# Altium schematic symbol library resistors.SchLib: 65 symbols
Pins are listed as number, name and electrical type; pins without a type are passive.

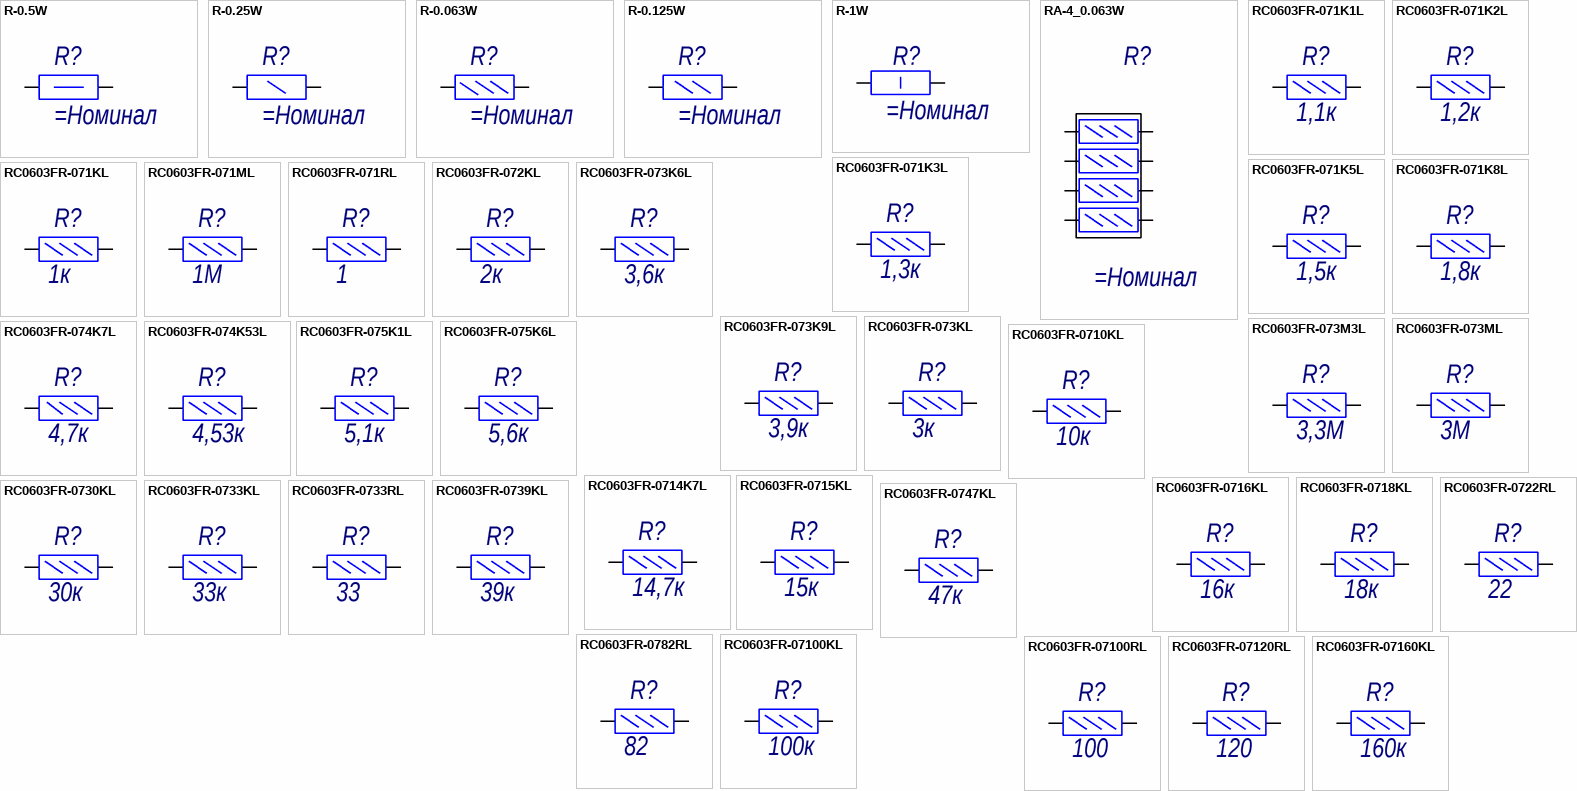
[diagram p0: symbols R-0.5W to RC0603FR-07160KL]

## R-0.5W
designator R?
Резистор 0,5Вт общий; ClassName: *
pins: 1, 2

## R-0.25W
designator R?
Резистор 0,25Вт общий; ClassName: *
pins: 1, 2

## R-0.063W
designator R?
Резистор 0,063Вт общий; ClassName: *
pins: 1, 2

## R-0.125W
designator R?
Резистор 0,125Вт общий; ClassName: *
pins: 1, 2

## R-1W
designator R?
Резистор 1Вт общий; ClassName: *
pins: 1, 2

## RA-4_0.063W
designator R?
Резисторная сборка 0,063Вт; ClassName: *
pins: 1, 2, 3, 4, 5, 6, 7, 8

## RC0603FR-071K1L
designator R?, comment 1,1к
Резистор 1,1кОм 0,063Вт 1%; Manufacturer: YAGEO; Name: RC0603FR-071K1L; Tolerance: 1%; Value: 1,1к
footprint R0603
pins: 1, 2

## RC0603FR-071K2L
designator R?, comment 1,2к
Резистор 1,2кОм 0,063Вт 1%; Manufacturer: YAGEO; Name: RC0603FR-071K2L; Tolerance: 1%; Value: 1,2к
footprint R0603
pins: 1, 2

## RC0603FR-071K3L
designator R?, comment 1,3к
Резистор 1,3кОм 0,063Вт 1%; Manufacturer: YAGEO; Name: RC0603FR-071K3L; Tolerance: 1%; Value: 1,3к
footprint R0603
pins: 1, 2

## RC0603FR-071K5L
designator R?, comment 1,5к
Резистор 1,5кОм 0,063Вт 1%; Manufacturer: YAGEO; Name: RC0603FR-071K5L; Tolerance: 1%; Value: 1,5к
footprint R0603
pins: 1, 2

## RC0603FR-071K8L
designator R?, comment 1,8к
Резистор 1,8кОм 0,063Вт 1%; Manufacturer: YAGEO; Name: RC0603FR-071K8L; Tolerance: 1%; Value: 1,8к
footprint R0603
pins: 1, 2

## RC0603FR-071KL
designator R?, comment 1к
Резистор 1кОм 0,063Вт 1%; Manufacturer: YAGEO; Name: RC0603FR-071KL; Tolerance: 1%; Value: 1к
footprint R0603
pins: 1, 2

## RC0603FR-071ML
designator R?, comment 1М
Резистор1МОм 0,1Вт 1%; Manufacturer: YAGEO; Name: RC0603FR-071ML; Tolerance: 1%; Value: 1М
footprint R0603
pins: 1, 2

## RC0603FR-071RL
designator R?, comment 1
Резистор 1Ом 0,063Вт 1%; Manufacturer: YAGEO; Name: RC0603FR-071RL; Tolerance: 1%; Value: 1
footprint R0603
pins: 1, 2

## RC0603FR-072KL
designator R?, comment 2к
Резистор 2кОм 0,063Вт 1%; Manufacturer: YAGEO; Name: RC0603FR-072KL; Tolerance: 1%; Value: 2к
footprint R0603
pins: 1, 2

## RC0603FR-073K6L
designator R?, comment 3,6к
Резистор 3,6кОм 0,063Вт 1%; Manufacturer: YAGEO; Name: RC0603FR-073K6L; Tolerance: 1%; Value: 3,6к
footprint R0603
pins: 1, 2

## RC0603FR-073K9L
designator R?, comment 3,9к
Резистор 3,9кОм 0,063Вт 1%; Manufacturer: YAGEO; Name: RC0603FR-073K9L; Tolerance: 1%; Value: 3,9к
footprint R0603
pins: 1, 2

## RC0603FR-073KL
designator R?, comment 3к
Резистор 3кОм 0,063Вт 1%; Manufacturer: YAGEO; Name: RC0603FR-073KL; Tolerance: 1%; Value: 3к
footprint R0603
pins: 1, 2

## RC0603FR-073M3L
designator R?, comment 3,3М
Резистор 3,3МОм 0,1Вт 1%; Manufacturer: YAGEO; Name: RC0603FR-073M3L; Tolerance: 1%; Value: 3,3М
footprint R0603
pins: 1, 2

## RC0603FR-073ML
designator R?, comment 3М
Резистор 3М 0,1Вт 1%; Manufacturer: YAGEO; Name: RC0603FR-073ML; Tolerance: 1%; Value: 3М
footprint R0603
pins: 1, 2

## RC0603FR-074K7L
designator R?, comment 4,7к
Резистор 4,7кОм 0,063Вт 1%; Manufacturer: YAGEO; Name: RC0603FR-074K7L; Tolerance: 1%; Parameter 1: *; Value: 4,7к
footprint R0603
pins: 1, 2

## RC0603FR-074K53L
designator R?, comment 4,53к
Резистор 4,53кОм 0,1Вт 1%; Manufacturer: YAGEO; Name: RC0603FR-074K53L; Tolerance: 1%; Value: 4,53к
footprint R0603
pins: 1, 2

## RC0603FR-075K1L
designator R?, comment 5,1к
Резистор 5,1кОм 0,1Вт 1%; Manufacturer: YAGEO; Name: RC0603FR-075K1L; Tolerance: 1%; Value: 5,1к
footprint R0603
pins: 1, 2

## RC0603FR-075K6L
designator R?, comment 5,6к
Резистор 5,6кОм 0,1Вт 1%; Manufacturer: YAGEO; Name: RC0603FR-075K6L; Tolerance: 1%; Value: 5,6к
footprint R0603
pins: 1, 2

## RC0603FR-0710KL
designator R?, comment 10к
Резистор 10кОм 0,063Вт 1%; Manufacturer: YAGEO; Name: RC0603FR-0710KL; Tolerance: 1%; Value: 10к
footprint R0603
pins: 1, 2

## RC0603FR-0714K7L
designator R?, comment 14,7к
Резистор 14,7кОм 0,063Вт 1%; Manufacturer: YAGEO; Name: RC0603FR-0714K7L; Tolerance: 1%; Value: 14,7к
footprint R0603
pins: 1, 2

## RC0603FR-0715KL
designator R?, comment 15к
Резистор 15кОм 0,063Вт 1%; Manufacturer: YAGEO; Name: RC0603FR-0715KL; Tolerance: 1%; Value: 15к
footprint R0603
pins: 1, 2

## RC0603FR-0716KL
designator R?, comment 16к
Резистор 16кОм 0,063Вт 1%; Manufacturer: YAGEO; Name: RC0603FR-0716KL; Tolerance: 1%; Value: 16к
footprint R0603
pins: 1, 2

## RC0603FR-0718KL
designator R?, comment 18к
Резистор 18кОм 0,063Вт 1%; Manufacturer: YAGEO; Name: RC0603FR-0718KL; Tolerance: 1%; Value: 18к
footprint R0603
pins: 1, 2

## RC0603FR-0722RL
designator R?, comment 22
Резистор 22 Ом 0,1Вт 1%; Manufacturer: YAGEO; Name: RC0603FR-0722RL; Tolerance: 1%; Value: 22
footprint R0603
pins: 1, 2

## RC0603FR-0730KL
designator R?, comment 30к
Резистор 30кОм 0,063Вт 1%; Manufacturer: YAGEO; Name: RC0603FR-0730KL; Tolerance: 1%; Value: 30к
footprint R0603
pins: 1, 2

## RC0603FR-0733KL
designator R?, comment 33к
Резистор 33кОм 0,063Вт 1%; Manufacturer: YAGEO; Name: RC0603FR-0733KL; Tolerance: 1%; Value: 33к
footprint R0603
pins: 1, 2

## RC0603FR-0733RL
designator R?, comment 33
Резистор 33Ом 0,063Вт 1%; Manufacturer: YAGEO; Name: RC0603FR-0733RL; Tolerance: 1%; Value: 33
footprint R0603
pins: 1, 2

## RC0603FR-0739KL
designator R?, comment 39к
Резистор 39кОм 0,063Вт 1%; Manufacturer: YAGEO; Name: RC0603FR-0739KL; Tolerance: 1%; Value: 39к
footprint R0603
pins: 1, 2

## RC0603FR-0747KL
designator R?, comment 47к
Резистор 47кОм 0,063Вт 1%; Manufacturer: YAGEO; Name: RC0603FR-0747KL; Tolerance: 1%; Value: 47к
footprint R0603
pins: 1, 2

## RC0603FR-0782RL
designator R?, comment 82
Резистор 82Ом 0,063Вт 1%; Manufacturer: YAGEO; Name: RC0603FR-0782RL; Tolerance: 1%; Value: 82
footprint R0603
pins: 1, 2

## RC0603FR-07100KL
designator R?, comment 100к
Резистор 100кОм 0,1Вт 1%; Manufacturer: YAGEO; Name: RC0603FR-07100KL; Tolerance: 1%; Value: 100к
footprint R0603
pins: 1, 2

## RC0603FR-07100RL
designator R?, comment 100
Резистор 100 Ом 0,1Вт 1%; Manufacturer: YAGEO; Name: RC0603FR-07100RL; Tolerance: 1%; Value: 100
footprint R0603
pins: 1, 2

## RC0603FR-07120RL
designator R?, comment 120
Резистор 120Ом 0,063Вт 1%; Manufacturer: YAGEO; Name: RC0603FR-07120RL; Tolerance: 1%; Value: 120
footprint R0603
pins: 1, 2

## RC0603FR-07160KL
designator R?, comment 160к
Резистор 160кОм 0,063Вт 1%; Manufacturer: YAGEO; Name: RC0603FR-07160KL; Tolerance: 1%; Value: 160к
footprint R0603
pins: 1, 2

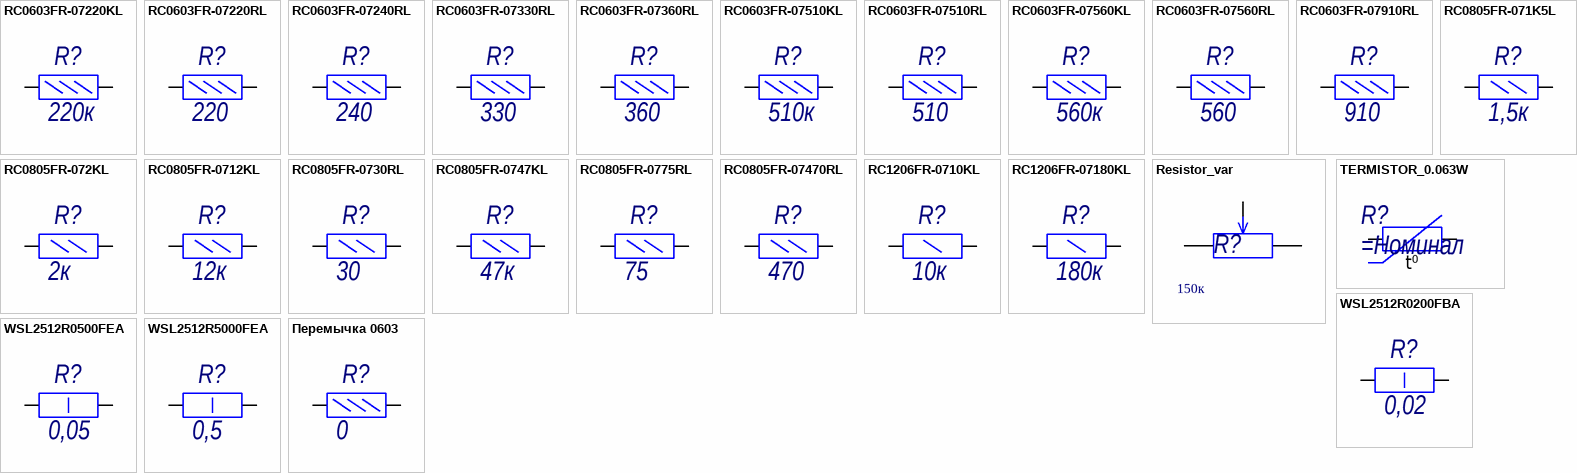
[diagram p1: symbols RC0603FR-07220KL to Перемычка 0603]

## RC0603FR-07220KL
designator R?, comment 220к
Резистор 220кОм 0,1Вт 1%; Manufacturer: YAGEO; Name: RC0603FR-07220KL; Tolerance: 1%; Value: 220к
footprint R0603
pins: 1, 2

## RC0603FR-07220RL
designator R?, comment 220
Резистор 220 Ом 0,1Вт 1%; Manufacturer: YAGEO; Name: RC0603FR-07220RL; Tolerance: 1%; Value: 220
footprint R0603
pins: 1, 2

## RC0603FR-07240RL
designator R?, comment 240
Резистор 240Ом 0,063Вт 1%; Manufacturer: YAGEO; Name: RC0603FR-07240RL; Tolerance: 1%; Value: 240
footprint R0603
pins: 1, 2

## RC0603FR-07330RL
designator R?, comment 330
Резистор 330Ом 0,063Вт 1%; Manufacturer: YAGEO; Name: RC0603FR-07330RL; Tolerance: 1%; Value: 330
footprint R0603
pins: 1, 2

## RC0603FR-07360RL
designator R?, comment 360
Резистор 360 Ом 0,1Вт 1%; Manufacturer: YAGEO; Name: RC0603FR-07360RL; Tolerance: 1%; Value: 360
footprint R0603
pins: 1, 2

## RC0603FR-07510KL
designator R?, comment 510к
Резистор 510кОм 0,1Вт 1%; Manufacturer: YAGEO; Name: RC0603FR-07510KL; Tolerance: 1%; Value: 510к
footprint R0603
pins: 1, 2

## RC0603FR-07510RL
designator R?, comment 510
Резистор 510 Ом 0,1Вт 1%; Manufacturer: YAGEO; Name: RC0603FR-07510RL; Tolerance: 1%; Value: 510
footprint R0603
pins: 1, 2

## RC0603FR-07560KL
designator R?, comment 560к
Резистор 560кОм 0,1Вт 1%; Manufacturer: YAGEO; Name: RC0603FR-07560KL; Tolerance: 1%; Value: 560к
footprint R0603
pins: 1, 2

## RC0603FR-07560RL
designator R?, comment 560
Резистор 560 Ом 0,1Вт 1%; Manufacturer: YAGEO; Name: RC0603FR-07560RL; Tolerance: 1%; Value: 560
footprint R0603
pins: 1, 2

## RC0603FR-07910RL
designator R?, comment 910
Резистор 910Ом 0,063Вт 1%; Manufacturer: YAGEO; Name: RC0603FR-07910RL; Tolerance: 1%; Value: 910
footprint R0603
pins: 1, 2

## RC0805FR-071K5L
designator R?, comment 1,5к
Резистор 1,5к 0,125Вт 1%; Manufacturer: YAGEO; Name: RC0805FR-071K5L; Tolerance: 1%; Value: 1,5к
footprint R0805 (Chip Resistor, 2-Leads, Body 2,10x1,30mm, IPC Medium Density)
pins: 1, 2

## RC0805FR-072KL
designator R?, comment 2к
Резистор 2кОм 0,125Вт 1%; Manufacturer: YAGEO; Name: RC0805FR-072KL; Tolerance: 1%; Value: 2к
footprint R0805 (Chip Resistor, 2-Leads, Body 2,10x1,30mm, IPC Medium Density)
pins: 1, 2

## RC0805FR-0712KL
designator R?, comment 12к
Резистор 12к 0,125Вт 1%; Manufacturer: YAGEO; Name: RC0805FR-0712KL; Tolerance: 1%; Value: 12к
footprint R0805 (Chip Resistor, 2-Leads, Body 2,10x1,30mm, IPC Medium Density)
pins: 1, 2

## RC0805FR-0730RL
designator R?, comment 30
Резистор 30 0,125Вт 1%; Manufacturer: YAGEO; Name: RC0805FR-0730RL; Tolerance: 1%; Value: 30
footprint R0805 (Chip Resistor, 2-Leads, Body 2,10x1,30mm, IPC Medium Density)
pins: 1, 2

## RC0805FR-0747KL
designator R?, comment 47к
Резистор 47к 0,125Вт 1%; Manufacturer: YAGEO; Name: RC0805FR-0747KL; Tolerance: 1%; Value: 47к
footprint R0805 (Chip Resistor, 2-Leads, Body 2,10x1,30mm, IPC Medium Density)
pins: 1, 2

## RC0805FR-0775RL
designator R?, comment 75
Резистор 75 Ом 0,125Вт 1%; Manufacturer: YAGEO; Name: RC0805FR-0775RL; Tolerance: 1%; Value: 75
footprint R0805 (Chip Resistor, 2-Leads, Body 2,10x1,30mm, IPC Medium Density)
pins: 1, 2

## RC0805FR-07470RL
designator R?, comment 470
Резистор 470 0,125Вт 1%; Manufacturer: YAGEO; Name: RC0805FR-07470RL; Tolerance: 1%; Value: 470
footprint R0805 (Chip Resistor, 2-Leads, Body 2,10x1,30mm, IPC Medium Density)
pins: 1, 2

## RC1206FR-0710KL
designator R?, comment 10к
Резистор 10к 0,25Вт 1%; Manufacturer: YAGEO; Name: RC1206FR-07180KL; Value: 10к
footprint R1206 (Chip Resistor, 2-Leads, Body 3,10x1,60mm, IPC Medium Density)
pins: 1, 2

## RC1206FR-07180KL
designator R?, comment 180к
Резистор 180к 0,25Вт 1%; Manufacturer: YAGEO; Name: RC1206FR-07180KL; Value: 180к
footprint R1206 (Chip Resistor, 2-Leads, Body 3,10x1,60mm, IPC Medium Density)
pins: 1, 2

## Resistor_var
designator R?, comment 150к
переменный резистор 150к; Value: 150к
pins: 1, 2, 3

## TERMISTOR_0.063W
designator R?
термистор; ClassName: *
pins: 1, 2
1 alternate drawing of the same symbol
text: t⁰

## WSL2512R0200FBA
designator R?, comment 0,02
Резистор 0,02 1Вт 1%; Manufacturer: Vishay; Name: WSL2512R0200F; Tolerance: 1%; Value: 0,02
footprint R2512 (Footprint not found)
pins: 1, 2

## WSL2512R0500FEA
designator R?, comment 0,05
Резистор 0,05 1Вт 1%; Manufacturer: Vishay; Name: WSL2512R0500F; Tolerance: 1%; Value: 0,05
footprint R2512 (Footprint not found)
pins: 1, 2

## WSL2512R5000FEA
designator R?, comment 0,5
Резистор 0,5 1Вт 1%; Manufacturer: Vishay; Name: WSL2512R5000FEA; Tolerance: 1%; Value: 0,5
footprint R2512 (Footprint not found)
pins: 1, 2

## Перемычка 0603
designator R?, comment 0
Перемычка 0603; Name: Перемычка 0603; Value: 0
footprint R0603
pins: 1, 2